# EAGLE library part MPU6050(GY521) (library cmmc_lbr1)
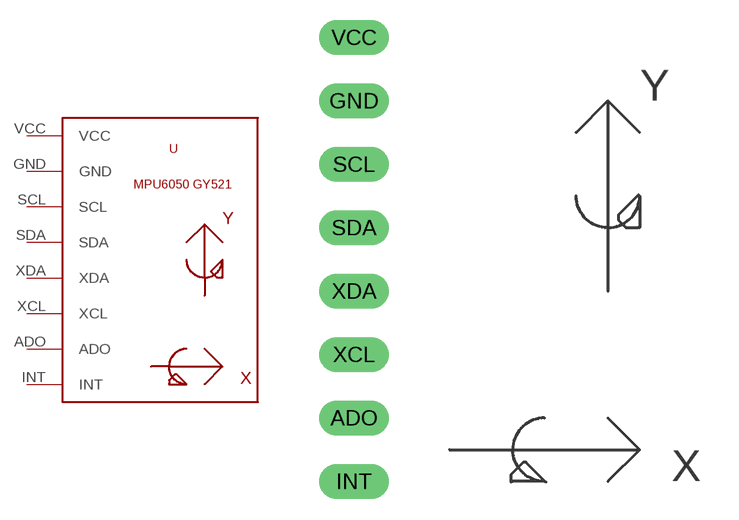
[diagram p2: symbol with the pads of MPU6050(GY521); footprint MPU6050(GY521)]

Designator prefix -

## MPU6050(GY521)  [MPU6050(GY521)]
ADO  ADO
GND  GND
INT  INT
SCL  SCL
SDA  SDA
VCC  VCC
XCL  XCL
XDA  XDA

## Footprint MPU6050(GY521) (pad centres in mm)
drill 0.9 pad 1.016 long: ADO -5.08,-11.43; GND -5.08,1.27; INT -5.08,-13.97; SCL -5.08,-1.27; SDA -5.08,-3.81; VCC -5.08,3.81; XCL -5.08,-8.89; XDA -5.08,-6.35